# EAGLE library part 16F1825 (library custom)
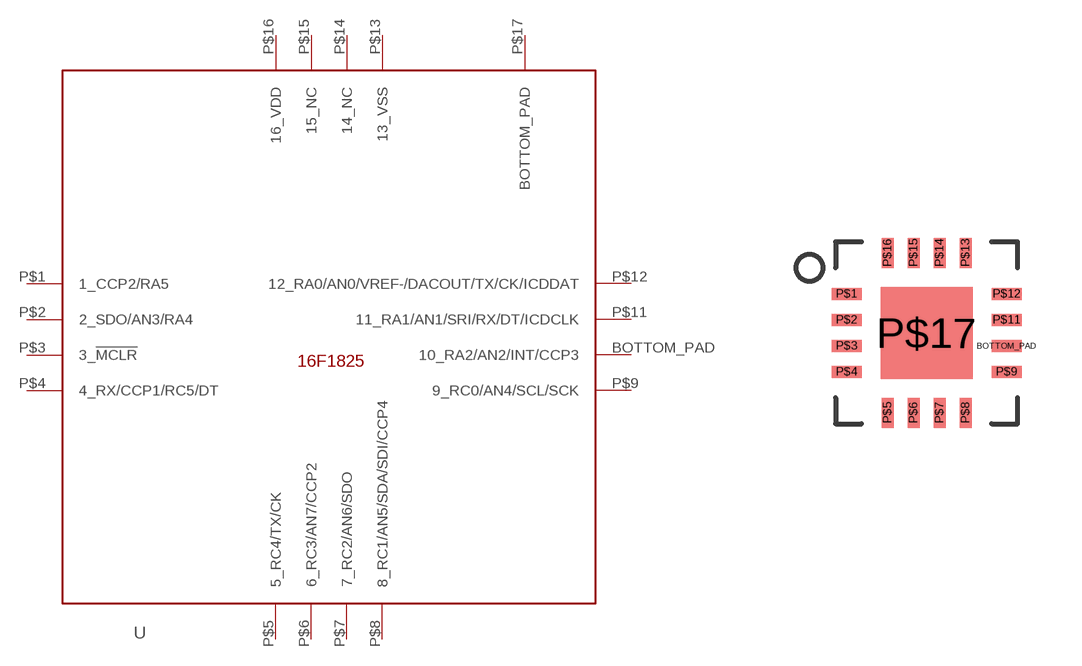
[diagram p35: symbol with the pads of QFN_16_4MM_4MM; footprint QFN_16_4MM_4MM]

Designator prefix -

## 16F1825  [QFN_16_4MM_4MM]
BOTTOM_PAD  10_RA2/AN2/INT/CCP3
P$1  1_CCP2/RA5
P$2  2_SDO/AN3/RA4
P$3  3_!MCLR
P$4  4_RX/CCP1/RC5/DT
P$5  5_RC4/TX/CK
P$6  6_RC3/AN7/CCP2
P$7  7_RC2/AN6/SDO
P$8  8_RC1/AN5/SDA/SDI/CCP4
P$9  9_RC0/AN4/SCL/SCK
P$11  11_RA1/AN1/SRI/RX/DT/ICDCLK
P$12  12_RA0/AN0/VREF-/DACOUT/TX/CK/ICDDAT
P$13  13_VSS
P$14  14_NC
P$15  15_NC
P$16  16_VDD
P$17  BOTTOM_PAD

## Footprint QFN_16_4MM_4MM (pad centres in mm)
smd 0.75 x 0.3: BOTTOM_PAD 2,-0.325; P$1 -2,0.975; P$2 -2,0.325; P$3 -2,-0.325; P$4 -2,-0.975; P$9 2,-0.975; P$11 2,0.325; P$12 2,0.975
smd 0.3 x 0.75: P$5 -0.975,-2; P$6 -0.325,-2; P$7 0.325,-2; P$8 0.975,-2; P$13 0.975,2; P$14 0.325,2; P$15 -0.325,2; P$16 -0.975,2
smd 2.3 x 2.3: P$17 0,0